# Altium footprint library Digital ICs.PcbLib: 11 footprints
Each footprint in its own frame and in the unit in brackets; x right, y up, seen from the top. Pads: shape width x height; smd on the part's side, far side on the other; paste and mask are expansions set on the pad; w line width, h text height; cw(c..) or ccw(c..) is an arc to the next point about the centre after c.
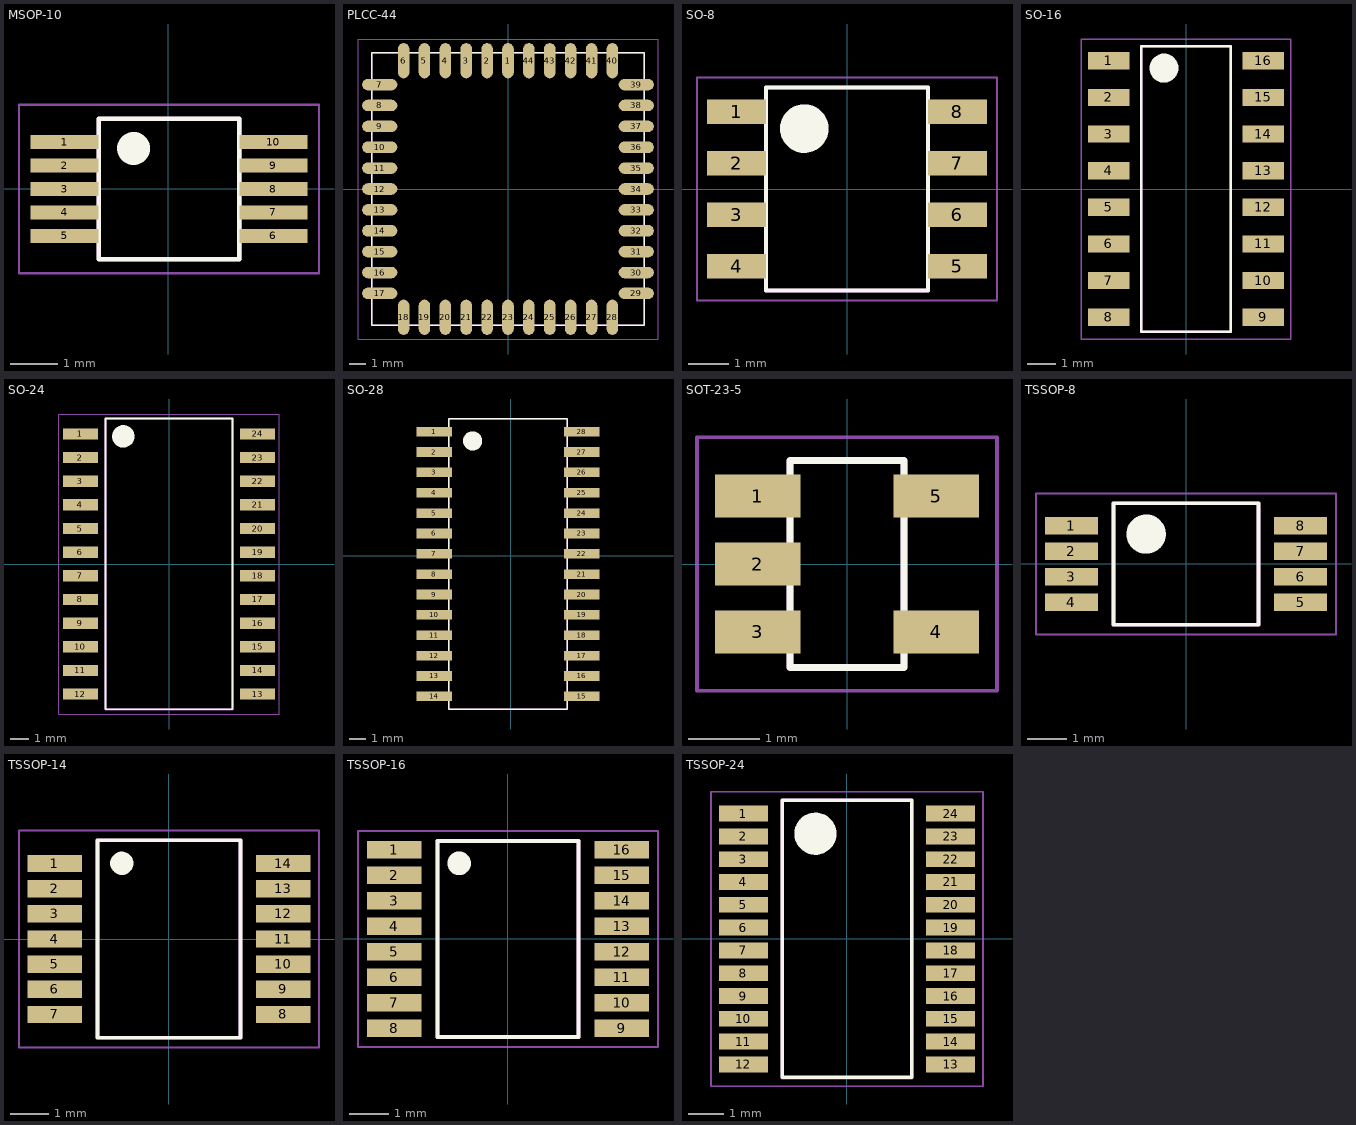
[diagram p0: the footprints below, top view; thin cyan lines are the x and y axes]

## MSOP-10 [mm]
pads (10):
  rect 1.45x0.3 smd paste-0.05: 1(-2.206,0.999) 2(-2.206,0.499) 3(-2.206,-0.001) 4(-2.206,-0.501) 5(-2.206,-1.001) 6(2.244,-1.001) 7(2.244,-0.501) 8(2.244,-0.001) 9(2.244,0.499) 10(2.244,0.999)
Top Overlay:
  circle w0.6: c-0.737,0.864 r0.05
  lines w0.1: -1.481,-1.501 1.519,-1.501 1.519,1.499 -1.481,1.499 -1.481,-1.501
Mechanical 2:
  lines w0.05: -3.181,-1.801 3.219,-1.801 3.219,1.799 -3.181,1.799 -3.181,-1.801
  lines w0.1: -1.479,-1.5 -1.479,1.5 1.521,1.5 1.521,-1.5 -1.479,-1.5
3D body "MSOP-10.STEP": height 1, standoff -0.05, extent -2.514,-1.5 2.514,1.5

## PLCC-44 [mm]
pads (44):
  rrect100% 0.7x2.142 smd: 1(0,7.804) 2(-1.27,7.804) 3(-2.54,7.804) 4(-3.81,7.804) 5(-5.08,7.804) 6(-6.35,7.804) 18(-6.35,-7.804) 19(-5.08,-7.804) 20(-3.81,-7.804) 21(-2.54,-7.804) 22(-1.27,-7.804) 23(0,-7.804) 24(1.27,-7.804) 25(2.54,-7.804) 26(3.81,-7.804) 27(5.08,-7.804) 28(6.35,-7.804) 40(6.35,7.804) 41(5.08,7.804) 42(3.81,7.804) 43(2.54,7.804) 44(1.27,7.804)
  rrect100% 2.142x0.7 smd: 7(-7.804,6.35) 8(-7.804,5.08) 9(-7.804,3.81) 10(-7.804,2.54) 11(-7.804,1.27) 12(-7.804,0) 13(-7.804,-1.27) 14(-7.804,-2.54) 15(-7.804,-3.81) 16(-7.804,-5.08) 17(-7.804,-6.35) 29(7.804,-6.35) 30(7.804,-5.08) 31(7.804,-3.81) 32(7.804,-2.54) 33(7.804,-1.27) 34(7.804,0) 35(7.804,1.27) 36(7.804,2.54) 37(7.804,3.81) 38(7.804,5.08) 39(7.804,6.35)
Top Overlay:
  lines w0.1: -8.292,-8.292 8.292,-8.292 8.292,8.292 -8.292,8.292 -8.292,-8.292
Mechanical 2:
  lines w0.05: -9.125,-9.125 9.125,-9.125 9.125,9.125 -9.125,9.125 -9.125,-9.125
  lines w0.1: -8.292,-8.292 -8.292,8.292 8.292,8.292 8.292,-8.292 -8.292,-8.292
3D body "PLCC44.step": height 4.3, standoff -0.04, extent -8.8,-8.8 8.8,8.8

## SO-8 [mm] "SOIC, 8-Leads, Body 4.90x3.90mm, Pitch 1.27mm, IPC Medium Density"
height 1.75
pads (8):
  rect 1.45x0.6 smd: 1(-2.725,1.905) 2(-2.725,0.635) 3(-2.725,-0.635) 4(-2.725,-1.905) 5(2.725,-1.905) 6(2.725,-0.635) 7(2.725,0.635) 8(2.725,1.905)
Top Overlay:
  circle w0.6: c-1.053,1.491 r0.3
  lines w0.1: -2,-2.5 -2,2.5 2,2.5 2,-2.5 -2,-2.5
Mechanical 2:
  lines w0.05: -3.7,-2.75 -3.7,2.75 3.7,2.75 3.7,-2.75 -3.7,-2.75
  lines w0.1: -2,-2.5 2,-2.5 2,2.5 -2,2.5 -2,-2.5
3D body "SOIC8.STEP": height 1.75, standoff 0, extent -3.025,-2.45 2.975,2.45

## SO-16 [mm] "SOIC, 16-Leads, Body 9.85x3.85mm, Pitch 1.27mm, IPC Medium Density"
height 1.75
pads (16):
  rect 1.45x0.6 smd: 1(-2.675,4.445) 2(-2.675,3.175) 3(-2.675,1.905) 4(-2.675,0.635) 5(-2.675,-0.635) 6(-2.675,-1.905) 7(-2.675,-3.175) 8(-2.675,-4.445) 9(2.675,-4.445) 10(2.675,-3.175) 11(2.675,-1.905) 12(2.675,-0.635) 13(2.675,0.635) 14(2.675,1.905) 15(2.675,3.175) 16(2.675,4.445)
Top Overlay:
  circle w0.6: c-0.762,4.191 r0.2
  lines w0.1: -1.55,-4.95 -1.55,4.95 1.55,4.95 1.55,-4.95 -1.55,-4.95
Mechanical 2:
  lines w0.05: -3.625,-5.2 -3.625,5.2 3.625,5.2 3.625,-5.2 -3.625,-5.2
  lines w0.1: -1.55,-4.95 1.55,-4.95 1.55,4.95 -1.55,4.95 -1.55,-4.95
3D body "SOIC16.STEP": height 1.73, standoff -0.04, extent -3.068,-4.985 3.069,4.985

## SO-24 [mm] "SOIC, 24-Leads, Body 15.40x7.50mm, Pitch 1.27mm, IPC Medium Density"
height 2.65
pads (24):
  rect 1.9x0.6 smd: 1(-4.75,6.985) 2(-4.75,5.715) 3(-4.75,4.445) 4(-4.75,3.175) 5(-4.75,1.905) 6(-4.75,0.635) 7(-4.75,-0.635) 8(-4.75,-1.905) 9(-4.75,-3.175) 10(-4.75,-4.445) 11(-4.75,-5.715) 12(-4.75,-6.985) 13(4.75,-6.985) 14(4.75,-5.715) 15(4.75,-4.445) 16(4.75,-3.175) 17(4.75,-1.905) 18(4.75,-0.635) 19(4.75,0.635) 20(4.75,1.905) 21(4.75,3.175) 22(4.75,4.445) 23(4.75,5.715) 24(4.75,6.985)
Top Overlay:
  circle w0.6: c-2.45,6.85 r0.3
  lines w0.1: -3.399,-7.798 -3.399,-3.898 -3.399,3.902 -3.399,7.802 3.401,7.802 3.401,-7.798 -3.399,-7.798
Mechanical 2:
  lines w0.05: -5.925,-8.05 -5.925,8.05 5.925,8.05 5.925,-8.05 -5.925,-8.05
  lines w0.1: -3.4,-7.8 3.4,-7.8 3.4,7.8 -3.4,7.8 -3.4,3.9 -3.4,-3.9 -3.4,-7.8
3D body "SOIC24.STEP": height 2.6, standoff 0, extent -5.2,-7.835 5.2,7.565

## SO-28 [mm]
pads (28):
  rect 2.2x0.6 smd: 1(-4.765,7.732) 2(-4.765,6.462) 3(-4.765,5.192) 4(-4.765,3.922) 5(-4.765,2.652) 6(-4.765,1.382) 7(-4.765,0.112) 8(-4.765,-1.158) 9(-4.765,-2.428) 10(-4.765,-3.698) 11(-4.765,-4.968) 12(-4.765,-6.238) 13(-4.765,-7.508) 14(-4.765,-8.778) 15(4.435,-8.778) 16(4.435,-7.508) 17(4.435,-6.238) 18(4.435,-4.968) 19(4.435,-3.698) 20(4.435,-2.428) 21(4.435,-1.158) 22(4.435,0.112) 23(4.435,1.382) 24(4.435,2.652) 25(4.435,3.922) 26(4.435,5.192) 27(4.435,6.462) 28(4.435,7.732)
Top Overlay:
  circle w0.6: c-2.374,7.155 r0.3
  lines w0.1: -3.865,-9.573 -3.364,-9.573 3.535,-9.573 3.535,8.527 -3.364,8.527 -3.865,8.527 -3.865,-9.573
Mechanical 2:
  lines w0.1: -3.865,-9.573 -3.865,8.527 -3.364,8.527 3.535,8.527 3.535,-9.573 -3.364,-9.573 -3.865,-9.573
3D body "SOIC28.STEP": height 2.65, standoff 0, extent -5.378,-9.458 4.922,8.442

## SOT-23-5 [mm]
pads (5):
  rect 1.2x0.6 smd: 1(-1.25,0.95) 2(-1.25,0) 3(-1.25,-0.95) 4(1.25,-0.95) 5(1.25,0.95)
Top Overlay:
  lines w0.1: -0.8,-1.45 0.8,-1.45 0.8,1.45 -0.8,1.45 -0.8,-1.45
Mechanical 2:
  lines w0.05: -2.1,-1.775 2.1,-1.775 2.1,1.775 -2.1,1.775 -2.1,-1.775
  lines w0.1: -0.8,-1.45 0.8,-1.45 0.8,1.45 -0.8,1.45 -0.8,-1.45
3D body "SN74LVC1G17QDBVRQ1.stp": height 1.45, standoff 0, extent -1.4,-1.45 1.4,1.45

## TSSOP-8 [mm] "TSOP, 8-Leads, Body 3.00x4.40mm, Pitch 0.65mm, IPC Medium Density"
height 1.2
pads (8):
  rect 1.35x0.45 smd: 1(-2.925,0.975) 2(-2.925,0.325) 3(-2.925,-0.325) 4(-2.925,-0.975) 5(2.925,-0.975) 6(2.925,-0.325) 7(2.925,0.325) 8(2.925,0.975)
Top Overlay:
  circle w0.6: c-1.016,0.762 r0.2
  lines w0.1: -1.85,-1.55 -1.85,1.55 1.85,1.55 1.85,-1.55 -1.85,-1.55
Mechanical 2:
  lines w0.05: -3.825,-1.8 -3.825,1.8 3.825,1.8 3.825,-1.8 -3.825,-1.8
  lines w0.1: -1.85,-1.55 -1.85,1.55 1.85,1.55 1.85,-1.55 -1.85,-1.55
3D body "TSSOP-8.STEP": height 1.2, standoff 0, extent -3.2,-1.5 3.2,1.5

## TSSOP-14 [mm] "TSOP, 14-Leads, Body 5.00x4.40mm, Pitch 0.65mm, IPC Medium Density"
height 1.2
pads (14):
  rect 1.4x0.45 smd: 1(-2.95,1.95) 2(-2.95,1.3) 3(-2.95,0.65) 4(-2.95,0) 5(-2.95,-0.65) 6(-2.95,-1.3) 7(-2.95,-1.95) 8(2.95,-1.95) 9(2.95,-1.3) 10(2.95,-0.65) 11(2.95,0) 12(2.95,0.65) 13(2.95,1.3) 14(2.95,1.95)
Top Overlay:
  circle w0.4: c-1.219,1.956 r0.1
  lines w0.1: -1.85,-2.55 1.85,-2.55 1.85,2.55 -1.85,2.55 -1.85,-2.55
Mechanical 2:
  lines w0.05: -3.875,-2.8 3.875,-2.8 3.875,2.8 -3.875,2.8 -3.875,-2.8
  lines w0.1: -1.85,-2.55 1.85,-2.55 1.85,2.55 -1.85,2.55 -1.85,-2.55
3D body "TSSOP-14.STEP": height 1.2, standoff 0, extent -3.2,-2.5 3.2,2.5

## TSSOP-16 [mm] "TSOP, 16-Leads, Body 4.95x4.35mm, Pitch 0.65mm, IPC Medium Density"
height 1.2
pads (16):
  rect 1.4x0.45 smd: 1(-2.9,2.275) 2(-2.9,1.625) 3(-2.9,0.975) 4(-2.9,0.325) 5(-2.9,-0.325) 6(-2.9,-0.975) 7(-2.9,-1.625) 8(-2.9,-2.275) 9(2.9,-2.275) 10(2.9,-1.625) 11(2.9,-0.975) 12(2.9,-0.325) 13(2.9,0.325) 14(2.9,0.975) 15(2.9,1.625) 16(2.9,2.275)
Top Overlay:
  circle w0.4: c-1.245,1.93 r0.1
  lines w0.1: -1.8,-2.5 1.8,-2.5 1.8,2.5 -1.8,2.5 -1.8,-2.5
Mechanical 2:
  lines w0.05: -3.825,-2.75 -3.825,2.75 3.825,2.75 3.825,-2.75 -3.825,-2.75
  lines w0.1: -1.8,-2.5 -1.8,2.5 1.8,2.5 1.8,-2.5 -1.8,-2.5
3D body "TSSOP-16.step": height 1.2, standoff 0, extent -3.2,-2.5 3.2,2.5

## TSSOP-24 [mm] "TSOP, 24-Leads, Body 7.80x4.40mm, Pitch 0.65mm, IPC Medium Density"
height 1.1
pads (24):
  rect 1.4x0.45 smd: 1(-2.95,3.575) 2(-2.95,2.925) 3(-2.95,2.275) 4(-2.95,1.625) 5(-2.95,0.975) 6(-2.95,0.325) 7(-2.95,-0.325) 8(-2.95,-0.975) 9(-2.95,-1.625) 10(-2.95,-2.275) 11(-2.95,-2.925) 12(-2.95,-3.575) 13(2.95,-3.575) 14(2.95,-2.925) 15(2.95,-2.275) 16(2.95,-1.625) 17(2.95,-0.975) 18(2.95,-0.325) 19(2.95,0.325) 20(2.95,0.975) 21(2.95,1.625) 22(2.95,2.275) 23(2.95,2.925) 24(2.95,3.575)
Top Overlay:
  circle w0.6: c-0.9,3 r0.3
  lines w0.1: -1.848,-3.945 -1.848,3.955 1.852,3.955 1.852,-3.945 -1.848,-3.945
Mechanical 2:
  lines w0.05: -3.875,-4.2 -3.875,4.2 3.875,4.2 3.875,-4.2 -3.875,-4.2
  lines w0.1: -1.85,-3.95 -1.85,3.95 1.85,3.95 1.85,-3.95 -1.85,-3.95
3D body "TSSOP-24.STEP": height 1.2, standoff 0, extent -3.2,-3.9 3.2,3.9